# EAGLE library part BUTTON-DPDT-7MM (library button-dpdt-7mm)
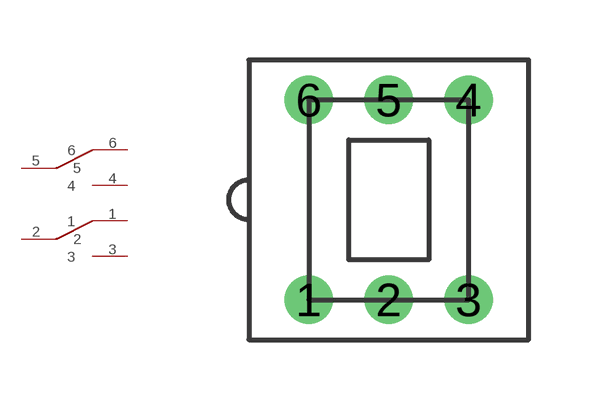
[diagram p0: symbol with the pads of BUTTON-DPDT-7MM; footprint BUTTON-DPDT-7MM]

Designator prefix -

## BUTTON-DPDT-7MM  [BUTTON-DPDT-7MM]
1  1
2  2
3  3
4  4
5  5
6  6

## Footprint BUTTON-DPDT-7MM (pad centres in mm)
drill 0.7 pad 1: 1 -2,-2.5; 2 0,-2.5; 3 2,-2.5; 4 2,2.5; 5 0,2.5; 6 -2,2.5